# EAGLE library part LCD_RGB_BACKLIGHT_CA (library teelsys-0.2)
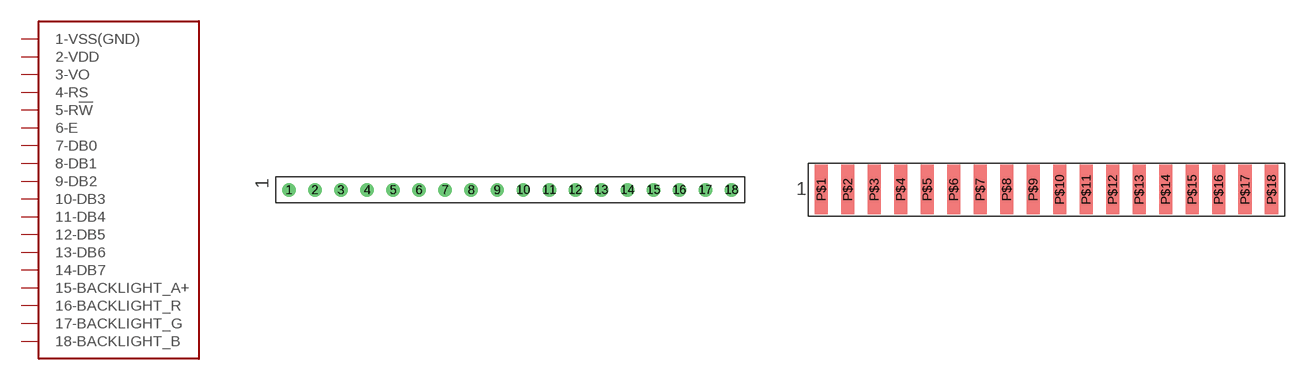
[diagram p3: symbol with the pads of 1X18; footprints 1X18, 1X18_PADS]

Designator prefix -

## LCD_RGB_BACKLIGHT_CA  [1X18]
1  1-VSS(GND)
2  2-VDD
3  3-VO
4  4-RS
5  5-R!W!
6  6-E
7  7-DB0
8  8-DB1
9  9-DB2
10  10-DB3
11  11-DB4
12  12-DB5
13  13-DB6
14  14-DB7
15  15-BACKLIGHT_A+
16  16-BACKLIGHT_R
17  17-BACKLIGHT_G
18  18-BACKLIGHT_B

## LCD_RGB_BACKLIGHT_CASOLDER_PADS  [1X18_PADS]
P$1  1-VSS(GND)
P$2  2-VDD
P$3  3-VO
P$4  4-RS
P$5  5-R!W!
P$6  6-E
P$7  7-DB0
P$8  8-DB1
P$9  9-DB2
P$10  10-DB3
P$11  11-DB4
P$12  12-DB5
P$13  13-DB6
P$14  14-DB7
P$15  15-BACKLIGHT_A+
P$16  16-BACKLIGHT_R
P$17  17-BACKLIGHT_G
P$18  18-BACKLIGHT_B

## Footprint 1X18 (pad centres in mm)
drill 0.8: 1 -21.59,0; 2 -19.05,0; 3 -16.51,0; 4 -13.97,0; 5 -11.43,0; 6 -8.89,0; 7 -6.35,0; 8 -3.81,0; 9 -1.27,0; 10 1.27,0; 11 3.81,0; 12 6.35,0; 13 8.89,0; 14 11.43,0; 15 13.97,0; 16 16.51,0; 17 19.05,0; 18 21.59,0

## Footprint 1X18_PADS (pad centres in mm)
smd 1.27 x 4.763: P$1 -21.59,1.27; P$2 -19.05,1.27; P$3 -16.51,1.27; P$4 -13.97,1.27; P$5 -11.43,1.27; P$6 -8.89,1.27; P$7 -6.35,1.27; P$8 -3.81,1.27; P$9 -1.27,1.27; P$10 1.27,1.27; P$11 3.81,1.27; P$12 6.35,1.27; P$13 8.89,1.27; P$14 11.43,1.27; P$15 13.97,1.27; P$16 16.51,1.27; P$17 19.05,1.27; P$18 21.59,1.27